# Altium footprint library BGA9N40P3X3_144X146X69N.PcbLib: 1 footprints
Each footprint in its own frame and in the unit in brackets; x right, y up, seen from the top. Pads: shape width x height; smd on the part's side, far side on the other; paste and mask are expansions set on the pad; w line width, h text height; cw(c..) or ccw(c..) is an arc to the next point about the centre after c.
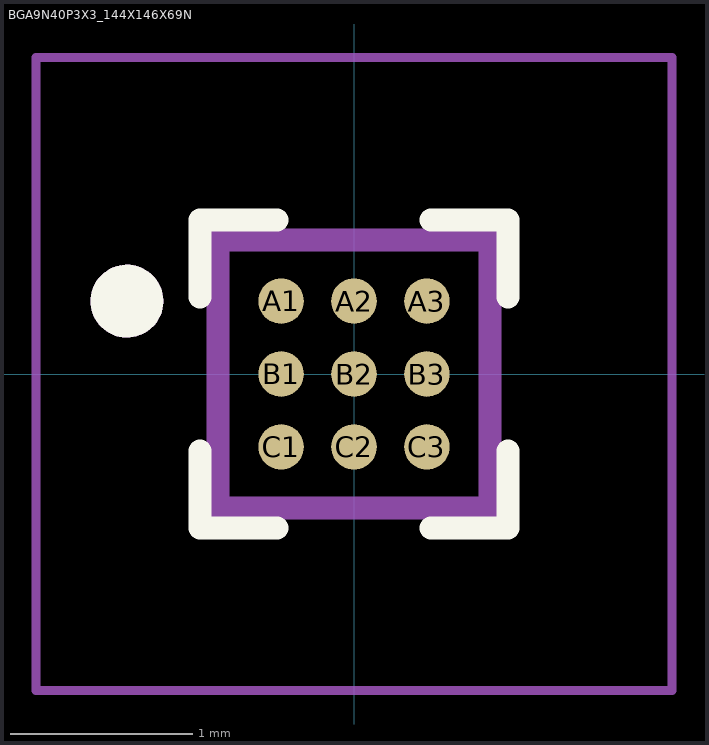
[diagram p0: the footprint, top view; thin cyan lines are the x and y axes]

## BGA9N40P3X3_144X146X69N [mm]
pads (9):
  round 0.25 smd: A1(-0.4,0.4) A2(0,0.4) A3(0.4,0.4) B1(-0.4,0) B2(0,0) B3(0.4,0) C1(-0.4,-0.4) C2(0,-0.4) C3(0.4,-0.4)
Top Overlay:
  circle w0.2: c-1.246,0.4 r0.1
  lines w0.127: -0.845,-0.423 -0.845,-0.845 -0.423,-0.845 ; -0.845,0.423 -0.845,0.845 -0.423,0.845 ; 0.423,-0.845 0.845,-0.845 0.845,-0.423 ; 0.423,0.845 0.845,0.845 0.845,0.423
Mechanical 13:
  circle w0.2: c-1.246,0.4 r0.1
  lines w0.127: -0.747,-0.737 0.747,-0.737 0.747,0.737 -0.747,0.737 -0.747,-0.737
Mechanical 15:
  lines w0.05: -1.746,-1.736 1.746,-1.736 1.746,1.736 -1.746,1.736 -1.746,-1.736
3D body "step_temp.STEP": height 0.69, standoff 0, extent -0.734,-0.724 0.734,0.724